# EAGLE library part LM3405 (library bschulz)
LM3405 Manufacturer: TI Characteristics: Vin: 3V~15V Operating Temperature: -40°C to 125°C Ouput Current: 1A Digikey: LM3405XMK/NOPBCT-ND <https://www.digikey.com/product-detail/en/texas-instruments/LM3405XMK-NOPB/LM3405XMK-NOPBCT-ND/1530527>
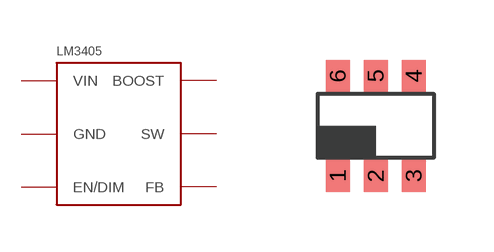
[diagram p23: symbol with the pads of TSOT23-6_DDC; footprint TSOT23-6_DDC]

Designator prefix -

## LM3405 (DIGIKEY: LM3405XMK/NOPBCT-ND; MF: TI; MPN: LM3405XMK/NOPB)  [TSOT23-6_DDC]
1  BOOST
2  GND  pwr
3  FB  in
4  EN/DIM  in
5  VIN  pwr
6  SW  out

## Footprint TSOT23-6_DDC (pad centres in mm)
DDC (R-PDSO-G6) PLASTIC SMALL OUTLINE PACKAGE Source: http://focus.ti.com/lit/ds/symlink/tps61070.pdf
smd 0.6 x 0.8: 1 -0.95,-1.25; 2 0,-1.25; 3 0.95,-1.25; 4 0.95,1.25; 5 0,1.25; 6 -0.95,1.25